# EAGLE library part FOOTPRINT (library IntegerLabs)
Modulo Footprint
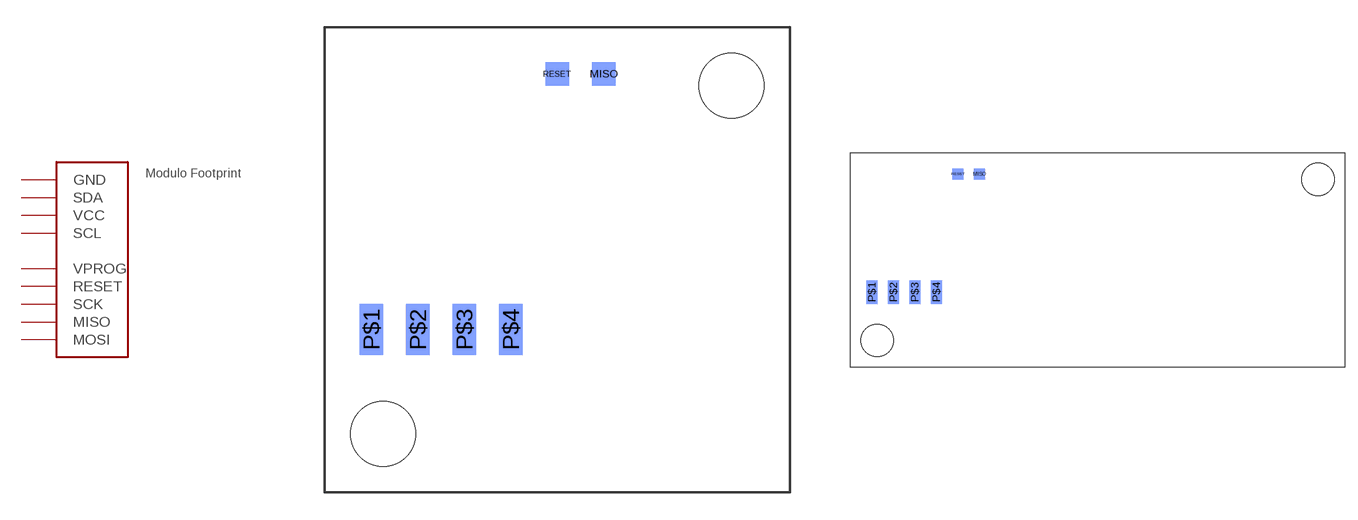
[diagram p1: symbol with the pads of FOOTPRINT; footprints FOOTPRINT, FOOTPRINT-DOUBLE]

Designator prefix PCB

## FOOTPRINT  [FOOTPRINT]
MISO  MOSI
P$1  VCC
P$2  SDA
P$3  GND
P$4  SCL
RESET  MISO

## FOOTPRINTDOUBLE  [FOOTPRINT-DOUBLE]
Pads as for FOOTPRINT

## FOOTPRINTDOUBLE-NODIM  [FOOTPRINT-DOUBLE-NODIMENSION]
Pads as for FOOTPRINT

## FOOTPRINTFOOTPRINT-2 (BOARD: Board; VALUE: EXCLUDE; VERSION: 1)  [FOOTPRINT2]
BUS0  GND
BUS1  SDA
BUS2  VCC
BUS3  SCL
PROG0  VPROG
PROG1  RESET
PROG2  SCK
PROG3  MISO
PROG4  MOSI

## FOOTPRINTFOOTPRINT3  [FOOTPRINT3-2U]
GNDL  GND
GNDR  GND
SCLL  SCL
SCLR  SCL
SDAL  SDA
SDAR  SDA
VCCL  VCC
VCCR  VCC

## Footprint FOOTPRINT (pad centres in mm)
smd 1.27 x 1.27 bottom: MISO 15.24,22.86; RESET 12.7,22.86
smd 1.295 x 2.794 bottom: P$1 2.54,8.89; P$2 5.08,8.89; P$3 7.62,8.89; P$4 10.16,8.89
hole 3.556 at 22.225,22.225
hole 3.556 at 3.175,3.175

## Footprint FOOTPRINT-DOUBLE (pad centres in mm)
smd 1.27 x 1.27 bottom: MISO 15.24,22.86; RESET 12.7,22.86
smd 1.295 x 2.794 bottom: P$1 2.54,8.89; P$2 5.08,8.89; P$3 7.62,8.89; P$4 10.16,8.89
hole 3.81 at 55.245,22.225
hole 3.81 at 3.175,3.175

## Footprint FOOTPRINT-DOUBLE-NODIMENSION (pad centres in mm)
smd 1.27 x 1.27 bottom: MISO 15.24,22.86; RESET 12.7,22.86
smd 1.295 x 2.794 bottom: P$1 2.54,8.89; P$2 5.08,8.89; P$3 7.62,8.89; P$4 10.16,8.89
hole 3.81 at 55.245,22.225
hole 3.81 at 3.175,3.175

## Footprint FOOTPRINT2 (pad centres in mm)
smd 1.27 x 2.54 bottom: BUS0 5.08,11.43; BUS1 7.62,11.43; BUS2 10.16,11.43; BUS3 12.7,11.43; PROG0 15.24,27.94; PROG1 17.78,27.94; PROG2 20.32,27.94; PROG3 22.86,27.94; PROG4 25.4,27.94
drill 2.223 pad 3.81: P$1 2.54,2.54; P$2 33.02,2.54; P$3 29.21,27.305

## Footprint FOOTPRINT3-2U (pad centres in mm)
drill 1.016 pad 1.778 square: GNDL 2.223,17.78; GNDR 23.431,17.78
drill 3.198: P$3 3.81,3.81; P$5 3.81,24.13; P$6 21.59,24.13; P$7 21.59,3.81
drill 1.016 pad 1.778: SCLL 1.968,10.16; SCLR 23.177,10.16; SDAL 1.968,15.24; SDAR 23.177,15.24; VCCL 2.095,12.7; VCCR 23.431,12.7